# EAGLE library part SDC01A (library SDC01A)
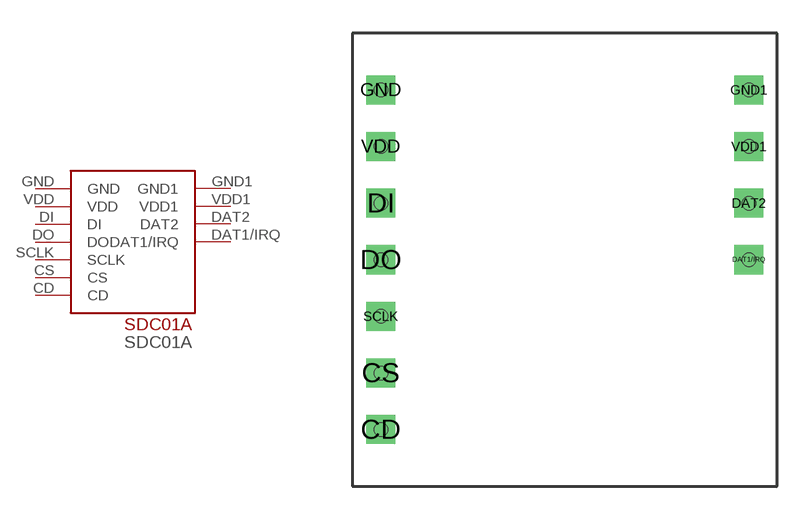
[diagram p0: symbol with the pads of SDC01A; footprint SDC01A]

Designator prefix -

## SDC01A  [SDC01A]
CD  CD
CS  CS
DAT1/IRQ  DAT1/IRQ
DAT2  DAT2
DI  DI
DO  DO
GND  GND
GND1  GND1
SCLK  SCLK
VDD  VDD
VDD1  VDD1

## Footprint SDC01A (pad centres in mm)
drill 0.8 square: CD -17.78,2.54; CS -17.78,5.08; DAT1/IRQ -1.27,10.16; DAT2 -1.27,12.7; DI -17.78,12.7; DO -17.78,10.16; GND -17.78,17.78; GND1 -1.27,17.78; SCLK -17.78,7.62; VDD -17.78,15.24; VDD1 -1.27,15.24
hole 0.6 at -17.78,17.78
hole 0.6 at -17.78,15.24
hole 0.6 at -17.78,12.7
hole 0.6 at -17.78,10.16
hole 0.6 at -17.78,7.62
hole 0.6 at -17.78,5.08
hole 0.6 at -17.78,2.54
hole 0.6 at -1.27,17.78
hole 0.6 at -1.27,15.24
hole 0.6 at -1.27,12.7
hole 0.6 at -1.27,10.16